# Altium schematic symbol library TPS27S100.SchLib: 1 symbol
Pins are listed as number, name and electrical type; pins without a type are passive.

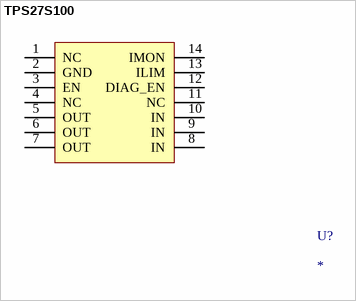
[diagram p0: symbol TPS27S100]

## TPS27S100
designator U?
pins: 1 NC, 2 GND, 3 EN, 4 NC, 5 OUT, 6 OUT, 7 OUT, 8 IN, 9 IN, 10 IN, 11 NC, 12 DIAG_EN, 13 ILIM, 14 IMON